# Altium schematic symbol library SCH - POWER - LINEAR VREG - TI LM2937IMP-10.SchLib: 1 symbol
Pins are listed as number, name and electrical type; pins without a type are passive.

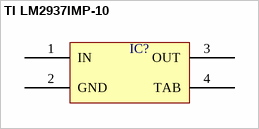
[diagram p0: symbol TI LM2937IMP-10]

## TI LM2937IMP-10
designator IC?  (value not drawn)
pins: 1 IN, 2 GND, 3 OUT, 4 TAB